# Altium footprint library Others.PcbLib: 4 footprints
Each footprint in its own frame and in the unit in brackets; x right, y up, seen from the top. Pads: shape width x height; smd on the part's side, far side on the other; paste and mask are expansions set on the pad; w line width, h text height; cw(c..) or ccw(c..) is an arc to the next point about the centre after c.
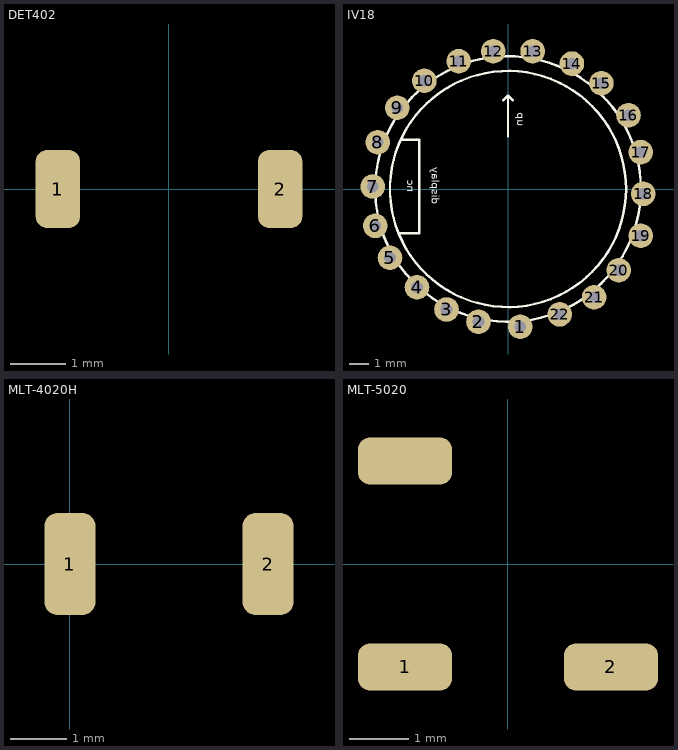
[diagram p0: the footprints below, top view; thin cyan lines are the x and y axes]

## DET402 [mm]
pads (2):
  rrect50% 0.8x1.4 smd: 1(-2,0) 2(2,0)
3D body "User Library-DET402.STEP": height 2, standoff -0.05, extent -2.418,-1.5 2.472,1.5

## IV18 [mil]
pads (22):
  round 50 / inner round 60 / far side round 50 hole 23.62: 1(25,-280) 2(-60,-270) 3(-125,-245) 4(-185,-200) 5(-240,-140) 6(-270,-75) 7(-275,5) 8(-265,95) 9(-225,165) 10(-170,220) 11(-100,260) 12(-30,280) 13(50,280) 14(130,255) 15(190,215) 16(245,150) 17(270,75) 18(275,-10) 19(270,-95) 20(225,-165) 21(175,-220) 22(105,-255)
Top Overlay:
  circle w5: c0,0 r240.05
  circle w5: c0,0 r270
  lines w5: -220,-90 -180,-90 -180,100 -217.52,100 ; -9.85,180.15 0,190 ; 0,107.28 0,190 ; 9.86,180.14 0,190
  text "p" at 12.8,141.73 h27.2
  text "u" at 12.8,128.03 h27.2
  text "nc" at -210.63,-6.89 h27.2
  text "display" at -161.42,-31.5 h27.2

## MLT-4020H [mm]
pads (2):
  rrect50% 0.9x1.8 smd: 1(0,0) 2(3.5,0)
3D body: height 2.2, standoff 0, extent -0.44,-2.205 3.942,2.213

## MLT-5020 [mm]
pads (3):
  rrect50% 1.6x0.8 smd: 1(-1.75,-1.75) 2(1.75,-1.75) ""(-1.75,1.75)
3D body "User Library-Buzz_5020.step": height 2, standoff -0.1, extent -2.5,-2.5 2.5,2.5